# Altium footprint library CAP.PCBLIB: 47 footprints (part 2 of 3)
Each footprint in its own frame and in the unit in brackets; x right, y up, seen from the top. Pads: shape width x height; smd on the part's side, far side on the other; paste and mask are expansions set on the pad; w line width, h text height; cw(c..) or ccw(c..) is an arc to the next point about the centre after c.
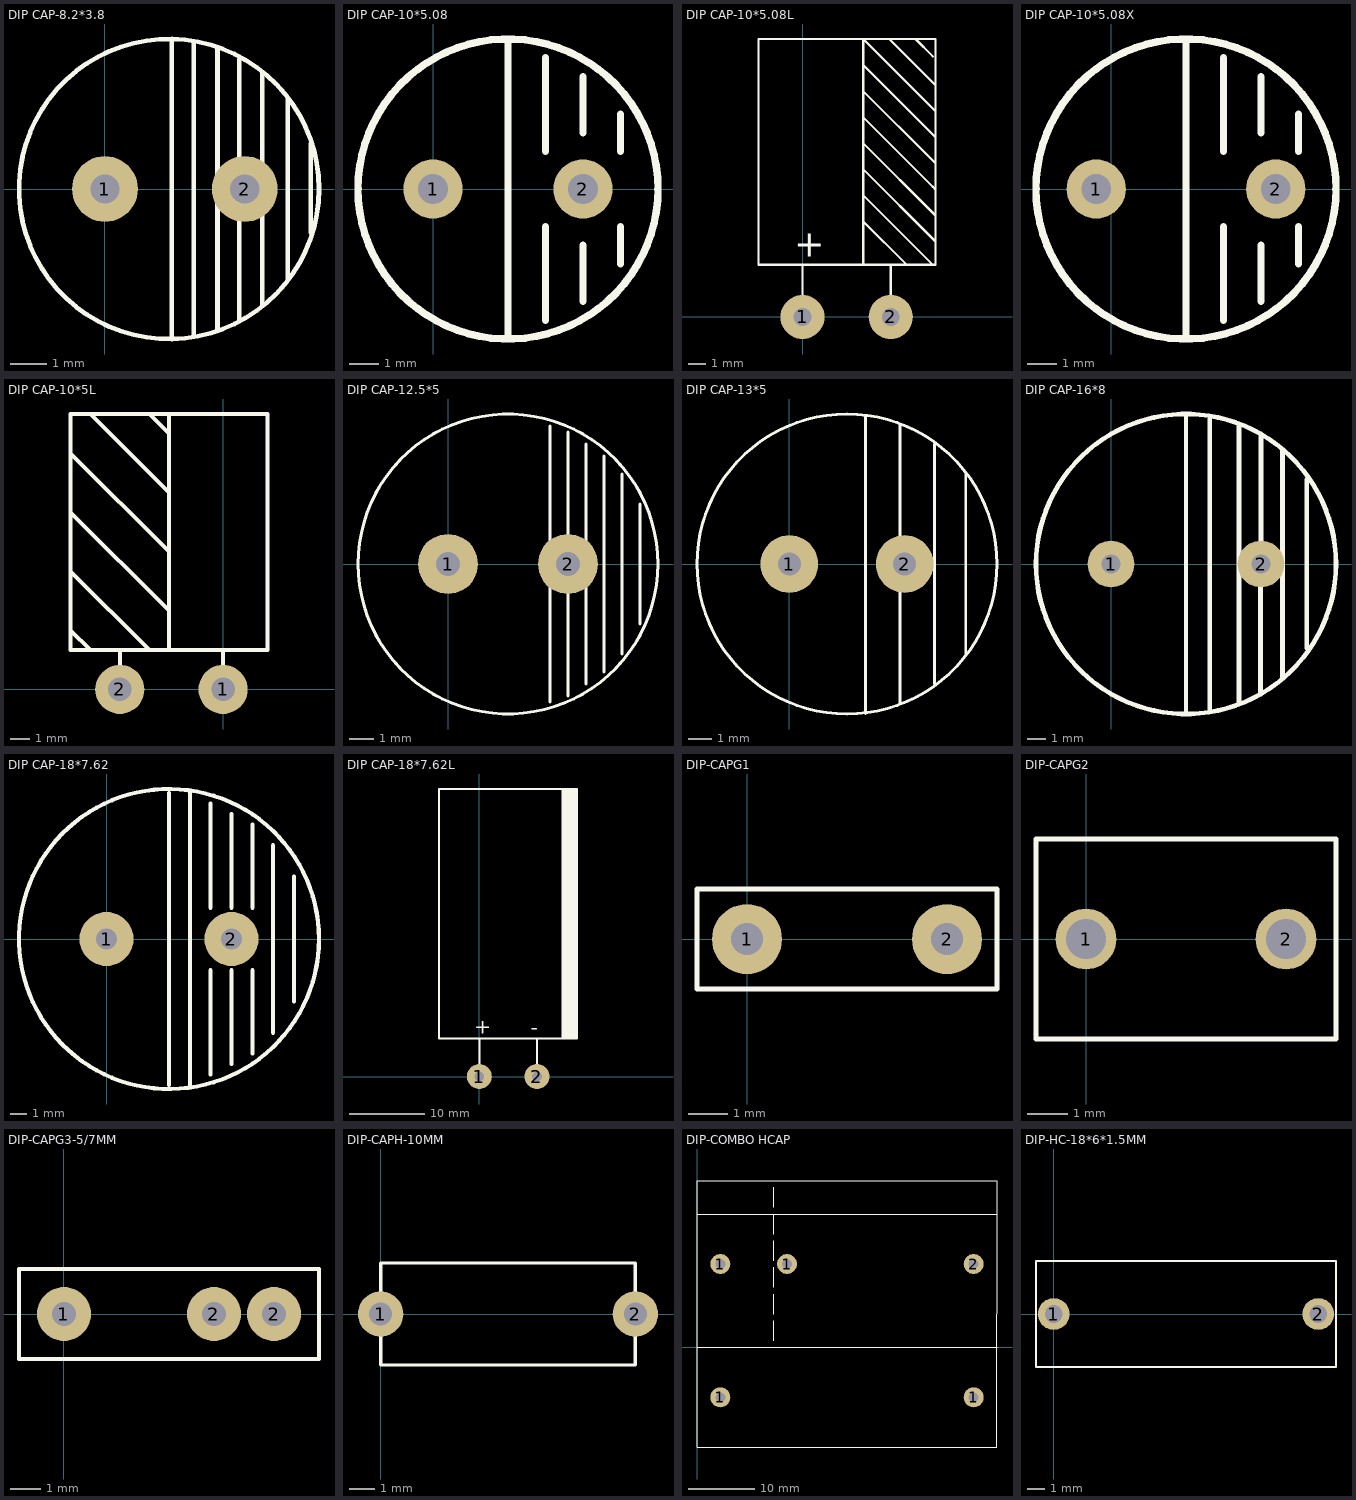
[diagram p1: the footprints below, top view; thin cyan lines are the x and y axes]

## DIP CAP-8.2*3.8 [mm]
pads (2):
  round 1.8 hole 0.8: 1(0,0) 2(3.82,0)
TopOverlay:
  circle w0.127: c1.75,0 r4.1
  lines w0.127: 1.824,-4.098 1.824,4.073 ; 2.424,-3.998 2.424,3.998 ; 3.074,-3.823 3.074,3.823 ; 3.674,-3.599 3.674,3.549 ; 4.298,-3.199 4.298,3.174 ; 4.998,-2.499 4.998,2.499 ; 5.623,-1.2 5.623,1.249

## DIP CAP-10*5.08 [mm]
pads (2):
  round 2 hole 1: 1(0,0) 2(5.08,0)
TopOverlay:
  circle w0.254: c2.54,0 r5.08
  lines w0.25: 2.54,-5.08 2.54,5.08 ; 3.81,-4.445 3.81,-1.27 ; 3.81,1.27 3.81,4.445 ; 5.08,-3.81 5.08,-1.905 ; 5.08,1.905 5.08,3.81 ; 6.35,-2.54 6.35,-1.27 ; 6.35,1.27 6.35,2.54

## DIP CAP-10*5.08L [mil]
pads (2):
  round 100 hole 40: 1(0,0) 2(200,0)
TopOverlay:
  lines w5: 0,0 0,118.11 ; 137.8,118.11 137.8,629.92 301.57,466.14 ; 137.8,216.54 236.22,118.11 ; 137.8,275.59 295.28,118.11 ; 137.8,334.65 301.57,170.87 ; 137.8,393.7 301.57,229.92 ; 137.8,452.76 295.28,295.28 301.57,288.98 ; 137.8,511.81 295.28,354.33 301.57,348.03 ; 137.8,570.87 301.57,407.09 ; 196.85,629.92 301.57,525.2 ; 200,0 200,117.83 ; 255.91,629.92 295.28,590.55 ; -100,118.11 301.57,118.11 301.57,629.92 -100,629.92 -100,118.11
  text "+" at -18.69,136.76 h60

## DIP CAP-10*5.08X [mm]
pads (2):
  round 2 hole 1: 1(-0.5,0) 2(5.58,0)
TopOverlay:
  circle w0.254: c2.54,0 r5.08
  lines w0.25: 2.54,-5.08 2.54,5.08 ; 3.81,-4.445 3.81,-1.27 ; 3.81,1.27 3.81,4.445 ; 5.08,-3.81 5.08,-1.905 ; 5.08,1.905 5.08,3.81 ; 6.35,-2.54 6.35,-1.27 ; 6.35,1.27 6.35,2.54

## DIP CAP-10*5L [mm]
pads (2):
  round 2.5 hole 1.2: 1(0,0) 2(-5.25,0)
TopOverlay:
  lines w0.203: -7.75,3 -6.75,2 ; -7.75,6 -3.75,2 ; -7.75,9 -2.75,4 ; -7.75,12 -2.75,7 ; -6.75,14 -2.75,10 ; -5.25,0 -5.25,2 ; -3.75,14 -2.75,13 ; -2.75,2 -2.75,14 ; 0,0 0,2 ; -3.75,2 -3.75,2 ; -2.75,10 -2.75,10 ; -7.75,2 2.25,2 2.25,14 -7.75,14 -7.75,2

## DIP CAP-12.5*5 [mm]
pads (2):
  round 2.5 hole 1: 1(0,0) 2(5,0)
TopOverlay:
  circle w0.127: c2.5,0 r6.25
  lines w0.127: 4.25,-5.75 4.25,5.75 ; 5,-5.5 5,5.5 ; 5.75,-5 5.75,5 ; 6.5,-4.5 6.5,4.5 ; 7.25,-3.75 7.25,3.75 ; 8,-2.5 8,2.5

## DIP CAP-13*5 [mm]
pads (2):
  round 2.5 hole 1: 1(0,0) 2(5,0)
TopOverlay:
  circle w0.127: c2.5,0 r6.5
  lines w0.127: 3.299,-6.472 3.299,6.397 ; 4.798,-6.048 4.798,-1.05 ; 4.798,1.15 4.798,6.073 ; 6.297,-5.198 6.297,5.198 ; 7.647,-3.923 7.647,3.898

## DIP CAP-16*8 [mm]
pads (2):
  round 2.5 hole 1: 1(0,0) 2(8,0)
TopOverlay:
  circle w0.254: c4,0 r8
  lines w0.203: 4,-8 4,8
  lines w0.254: 5.273,-7.822 5.273,7.747 ; 6.822,-7.472 6.822,7.422 ; 7.972,-6.822 7.972,-1.2 ; 7.997,1.274 7.997,6.847 ; 9.146,-6.073 9.146,6.048 ; 10.446,-4.498 10.446,4.523

## DIP CAP-18*7.62 [mil]
pads (2):
  round 130 hole 50: 1(0,0) 2(300,0)
TopOverlay:
  circle w10: c150,0 r360
  lines w9.84: 150,-350 150,350 ; 200,-350 200,350 ; 250,-325 250,-75 ; 250,75 250,325 ; 300,-300 300,-75 ; 300,75 300,300 ; 350,-275 350,-75 ; 350,75 350,275 ; 400,-225 400,225 ; 450,-150 450,150

## DIP CAP-18*7.62L [mil]
pads (2):
  round 130 hole 50: 1(0,0) 2(300,0)
TopOverlay:
  rectangle: 427.98,196.85 509.02,1496.06
  lines w10: 0,0 0,196.85 ; 300,0 300,196.77 ; -210.55,196.85 -210.55,1496.06 509.02,1496.06 509.02,196.85 -210.55,196.85
  text "+" at -25.58,222.35 h78.74
  text "-" at 268.59,216.45 h78.74

## DIP-CAPG1 [mil]
pads (2):
  round 70 hole 32: 1(0,0) 2(200,0)
TopOverlay:
  lines w5: -50,-50 250,-50 250,50.18 -50,50.18 -50,-50

## DIP-CAPG2 [mil]
pads (2):
  round 60 hole 39.37: 1(0,0) 2(196.85,0)
TopOverlay:
  lines w5: -49.21,-98.43 246.06,-98.43 246.06,98.43 -49.21,98.43 -49.21,-98.43

## DIP-CAPG3-5/7MM [mm]
pads (3):
  round 1.8 hole 0.8: 1(0,0) 2(5,0) 2(7,0)
TopOverlay:
  lines w0.127: -1.5,-1.5 -1.5,1.5 8.5,1.5 8.5,-1.5 -1.5,-1.5

## DIP-CAPH-10MM [mil]
pads (2):
  round 70 hole 35.43: 1(0,0) 2(393.7,0)
TopOverlay:
  lines w5: 0,-78.74 0,78.74 393.7,78.74 393.7,-78.74 0,-78.74

## DIP-COMBO HCAP [mm]
pads (5):
  round 3 hole 1.5: 1(3.5,-7.5) 1(3.5,12.5) 1(13.5,12.5) 1(41.5,-7.5) 2(41.5,12.5)
TopOverlay:
  lines w0.127: 0,0 45,0 ; 0,20 45,20 ; 11.5,1 11.5,3.75 11.5,4 ; 11.5,5 11.5,8 ; 11.5,9 11.5,12 ; 11.5,13 11.5,16 ; 11.5,17 11.5,20 ; 11.5,21 11.5,24 ; 0,-15 0,25 45,25 45,-15 0,-15

## DIP-HC-18*6*1.5MM [mm]
pads (2):
  round 1.8 hole 1: 1(0,0) 2(15,0)
TopOverlay:
  lines w0.127: -1,-3 -1,3 16,3 16,-3 -1,-3